# EAGLE library part N3428-6002RB (library 3M_By_element14_Batch_1)
WIRE-BOARD CONN, HEADER, 20POS,
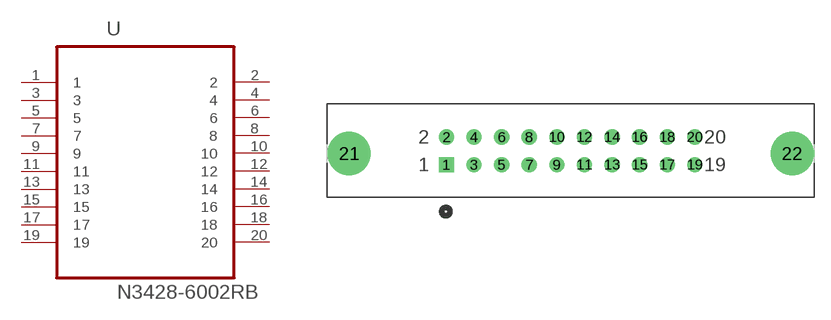
[diagram p102: symbol with the pads of 3M_N3428-6002RB; footprint 3M_N3428-6002RB]

Designator prefix U

## N3428-6002RB (MPN: N3428-6002RB; OC_FARNELL: 1287956; OC_NEWARK: 69K7218; PACKAGE: WIRE-BOARD CONN, HEADER, 20POS,; SUPPLIER: 3M)  [3M_N3428-6002RB]
1  1  pas
2  2  pas
3  3  pas
4  4  pas
5  5  pas
6  6  pas
7  7  pas
8  8  pas
9  9  pas
10  10  pas
11  11  pas
12  12  pas
13  13  pas
14  14  pas
15  15  pas
16  16  pas
17  17  pas
18  18  pas
19  19  pas
20  20  pas

## Footprint 3M_N3428-6002RB (pad centres in mm)
drill 0.889 square: 1 -22.86,-2.54
drill 0.889: 2 -22.86,0; 3 -20.32,-2.54; 4 -20.32,0; 5 -17.78,-2.54; 6 -17.78,0; 7 -15.24,-2.54; 8 -15.24,0; 9 -12.7,-2.54; 10 -12.7,0; 11 -10.16,-2.54; 12 -10.16,0; 13 -7.62,-2.54; 14 -7.62,0; 15 -5.08,-2.54; 16 -5.08,0; 17 -2.54,-2.54; 18 -2.54,0; 19 0,-2.54; 20 0,0
drill 2.946: 21 -31.801,-1.524; 22 8.941,-1.524